# Altium footprint library SM_IPC_R_2920.PcbLib: 1 footprints
Each footprint in its own frame and in the unit in brackets; x right, y up, seen from the top. Pads: shape width x height; smd on the part's side, far side on the other; paste and mask are expansions set on the pad; w line width, h text height; cw(c..) or ccw(c..) is an arc to the next point about the centre after c.
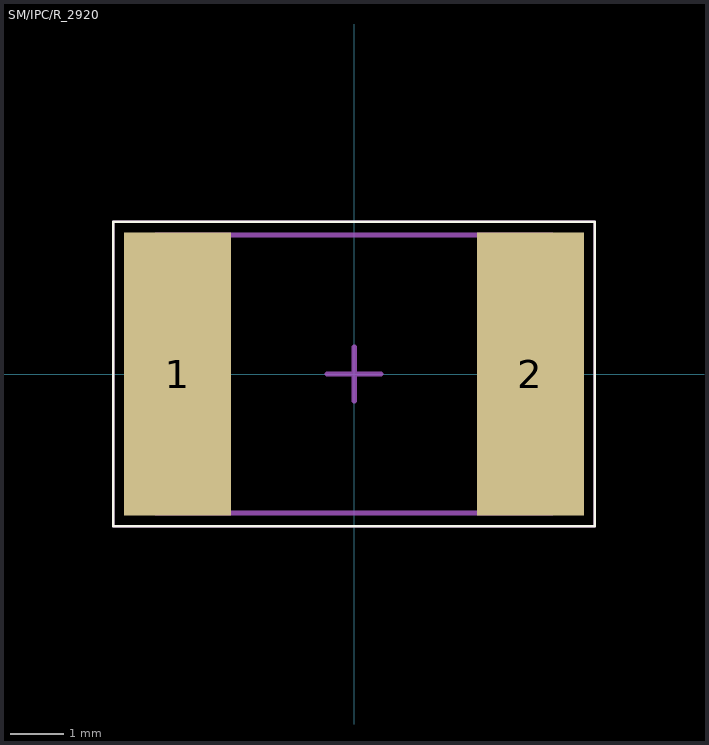
[diagram p0: the footprint, top view; thin cyan lines are the x and y axes]

## SM/IPC/R_2920 [mm]
pads (2):
  rect 2x5.3 smd: 1(-3.3,0) 2(3.3,0)
Top Overlay:
  lines w0.05: -4.5,-2.85 4.5,-2.85 4.5,2.85 -4.5,2.85 -4.5,-2.85
Mechanical 13:
  lines w0.1: -3.7,-2.6 3.7,-2.6 3.7,2.6 -3.7,2.6 -3.7,-2.6
Mechanical 15:
  lines w0.05: -4.5,-2.85 -4.5,2.85 4.5,2.85 4.5,-2.85 -4.5,-2.85
  lines w0.1: -0.497,0 0.503,0 ; 0.003,-0.5 0.003,0.5
3D body: height 1, standoff 0, extent -3.708,-2.591 -2.627,2.591
3D body: height 1, standoff 0, extent -2.627,-2.591 2.633,2.591
3D body: height 1, standoff 0, extent 2.633,-2.591 3.708,2.591